# EAGLE library part 5035000991 (library Connectors)
CONN SD CARD PUSH-PUSH R/A SMD Manufacturer's datasheet <https://www.molex.com/pdm_docs/sd/5035000991_sd.pdf>
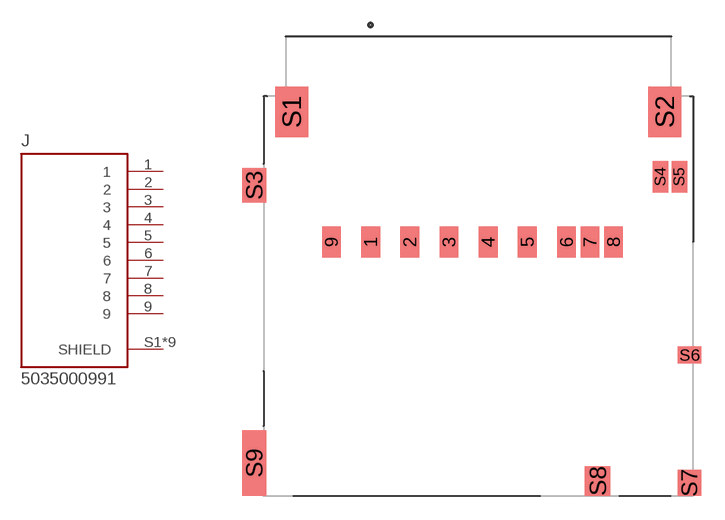
[diagram p5: symbol with the pads of 5035000991; footprint 5035000991]

Designator prefix J

## 5035000991 (CREATED_BY: PCBLayout.com; DIGIKEY_PART_NUMBER: WM6877CT-ND; MANUFACTURER: Molex; MPN: 5035000991)  [5035000991]
1  1  pas
2  2  pas
3  3  pas
4  4  pas
5  5  pas
6  6  pas
7  7  pas
8  8  pas
9  9  pas
S1  SHIELD  pwr
S2  SHIELD  pwr
S3  SHIELD  pwr
S4  SHIELD  pwr
S5  SHIELD  pwr
S6  SHIELD  pwr
S7  SHIELD  pwr
S8  SHIELD  pwr
S9  SHIELD  pwr

## Footprint 5035000991 (pad centres in mm)
smd 1.2 x 1.95: 1 -6.875,-7.25; 2 -4.375,-7.25; 3 -1.875,-7.25; 4 0.625,-7.25; 5 3.125,-7.25; 6 5.625,-7.25; 7 7.125,-7.25; 8 8.625,-7.25; 9 -9.375,-7.25
smd 2.1 x 3.2: S1 -11.9,1.055; S2 11.9,1.055
smd 1.55 x 2.2: S3 -14.305,-3.625
smd 1 x 2: S4 11.62,-3.085; S5 12.82,-3.085
smd 1.5 x 1.1: S6 13.47,-14.455
smd 1.5 x 1.65: S7 13.47,-22.62
smd 1.6 x 1.87: S8 7.6,-22.51
smd 1.55 x 4.17: S9 -14.305,-21.36